# Altium footprint library PDH_PcbLib.PcbLib: 7 footprints
Each footprint in its own frame and in the unit in brackets; x right, y up, seen from the top. Pads: shape width x height; smd on the part's side, far side on the other; paste and mask are expansions set on the pad; w line width, h text height; cw(c..) or ccw(c..) is an arc to the next point about the centre after c.
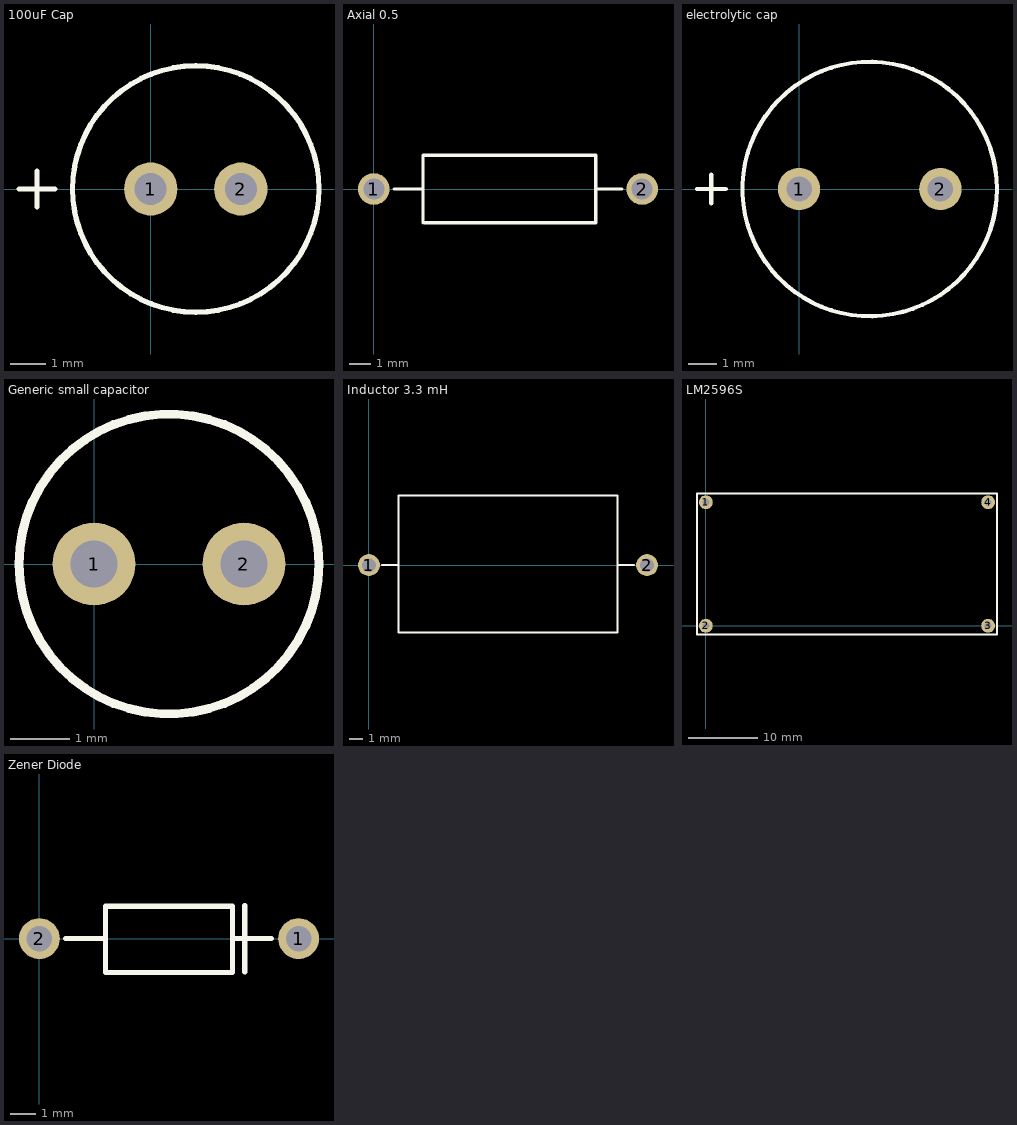
[diagram p0: the footprints below, top view; thin cyan lines are the x and y axes]

## 100uF Cap [mm]
pads (2):
  round 1.5 hole 0.9: 1(0,0) 2(2.54,0)
Top Overlay:
  circle w0.15: c1.27,0 r3.47
  lines w0.15: -3.708,0 -2.692,0 ; -3.2,-0.508 -3.2,0.508

## Axial 0.5 [mm]
pads (2):
  round 1.5 hole 1: 1(0,0) 2(12.7,0)
Top Overlay:
  lines w0.15: 0.95,0 2.325,0 ; 2.325,-1.6 2.325,0 ; 2.4,-1.6 10.5,-1.6 10.5,1.6 2.325,1.6 2.325,0 ; 10.525,0 11.75,0

## electrolytic cap [mm]
pads (2):
  round 1.5 hole 0.9: 1(0,0) 2(5,0)
Top Overlay:
  circle w0.15: c2.5,0 r4.5
  lines w0.15: -3.608,0 -2.592,0 ; -3.1,-0.508 -3.1,0.508

## Generic small capacitor [mm]
pads (2):
  round 1.4 / inner round 1.4 / far side round 1.2 hole 0.8: 1(0,0) 2(2.54,0)
Top Overlay:
  circle w0.15: c1.27,0 r2.54

## Inductor 3.3 mH [mm]
pads (2):
  round 1.6 hole 1: 1(0,0) 2(20.32,0)
Top Overlay:
  lines w0.15: 0.965,0 2.147,0 ; 18.173,0 19.355,0 ; 2.147,-4.92 18.173,-4.92 18.173,5.08 2.147,5.08 2.147,0.08 2.147,-4.92

## LM2596S [mm]
pads (4):
  round 2 hole 1: 1(0,17.78) 2(0,0) 3(40.64,0) 4(40.64,17.78)
Top Overlay:
  lines w0.254: -1.27,-1.27 -1.27,19.05 41.91,19.05 41.91,-1.27 -1.27,-1.27

## Zener Diode [mm]
pads (2):
  round 1.6 hole 1: 1(10.16,0) 2(0,0)
Top Overlay:
  lines w0.2: 1.025,0 2.587,0 ; 2.587,1.22 2.587,-0.08 2.587,-1.33 7.572,-1.33 7.572,1.27 2.587,1.27 ; 7.572,0 9.1,0 ; 8.051,-1.3 8.051,1.3